# EAGLE library part TPS5420 (library NBitWonder)
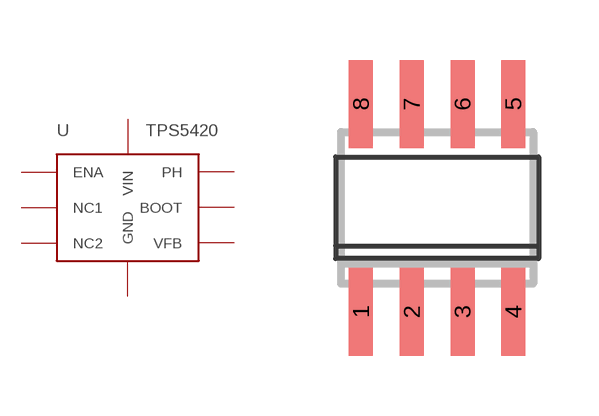
[diagram p5: symbol with the pads of SO-08; footprint SO-08]

Designator prefix -

## TPS5420  [SO-08]
1  BOOT  in
2  NC1  nc
3  NC2  nc
4  VFB  in
5  ENA  in
6  GND  pwr
7  VIN  pwr
8  PH  out

## Footprint SO-08 (pad centres in mm)
D (R-PDSO-G8) Plastic Small Outline Package Source: http://focus.ti.com/lit/ds/symlink/sn65als176.pdf
smd 0.6 x 2.2: 1 -1.905,-2.6; 2 -0.635,-2.6; 3 0.635,-2.6; 4 1.905,-2.6; 5 1.905,2.6; 6 0.635,2.6; 7 -0.635,2.6; 8 -1.905,2.6